# Altium schematic symbol library GPS_SchLib.SchLib: 9 symbols
Pins are listed as number, name and electrical type; pins without a type are passive.

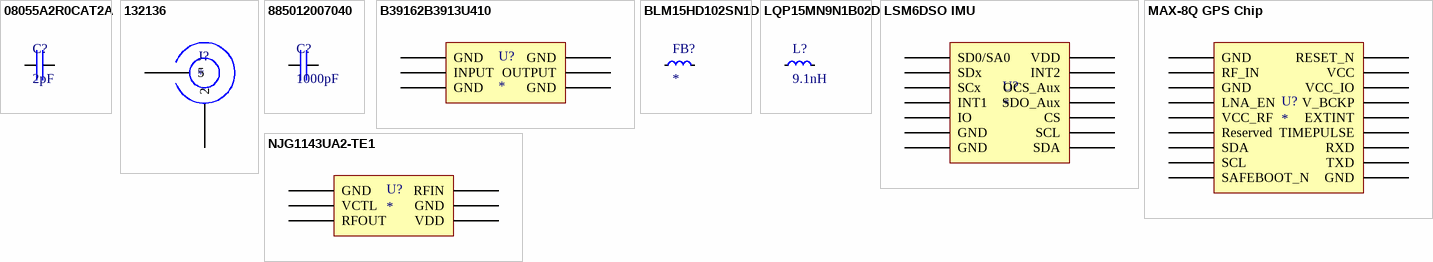
[diagram p0: symbols 08055A2R0CAT2A to NJG1143UA2-TE1]

## 08055A2R0CAT2A
designator C?, comment 2pF
2pF ±0.25pF 50V Ceramic Capacitor C0G, NP0 0805 (2012 Metric); ComponentLink1Description: Datasheet; ComponentLink1URL: http://datasheets.avx.com/C0GNP0-Dielectric.pdf
footprint 0805
pins: 1, 2

## 132136
designator J?
Connector, rf coaxial,SMA right angle jack for p.c. board, 4 legs, .050 cont, 50 ohm; ComponentLink1Description: Digikey; ComponentLink1URL: https://www.digikey.ca/product-detail/en/amphenol-rf-division/132136/ACX1232-ND/1011909; ComponentLink2Description: Drawing datasheet; ComponentLink2URL: https://www.amphenolrf.com/media/downloads/211/132136.PDF
footprint 132136
pins: 2, 5

## 885012007040
designator C?, comment 1000pF
1000pF ±5% 25V Ceramic Capacitor C0G, NP0 0805 (2012 Metric); ComponentLink1Description: Datasheet; ComponentLink1URL: https://katalog.we-online.de/pbs/datasheet/885012007040.pdf
footprint 0805
pins: 1, 2

## B39162B3913U410
designator U?
SAW Filter 1588MHzFrequency 50Ohm SMD 6Pin; ComponentLink1Description: datasheet; ComponentLink1URL: https://4donline.ihs.com/images/VipMasterIC/IC/TDKC/TDKC-S-A0001073526/TDKC-S-A0001072983-1.pdf?hkey=52A5661711E402568146F3353EA87419
footprint DCC6C (footprint for B39162B3913U410CT-ND)
pins: 1 GND, 2 INPUT, 3 GND, 4 GND, 5 OUTPUT, 6 GND

## BLM15HD102SN1D
designator FB?
Ferrite Beads 0402 1Kohms Tape GHz Hi Spd Sig Line; Manufacturer: Taiyo Yuden; Manufacturer Part Number: NR6028T330M; Inductance: 33uH; DC Resistance (DCR): 286mR; Test Frequency: 100kHz; Max DC Current: 1.1A; Tolerance: 20%; Shielding: Shielded; Self Resonant Frequency: 10MHz; Supplier 1: Digi-Key; Supplier Part Number 1: 587-2631-1-ND; RoHS: Yes; Category: Fixed Inductors; Stock 1: 53157; Mount: Surface Mount; Case/Package: Nonstandard; Number of Pins: 2; Core Material: Ferrite; Min Operating Temperature: -25°C; Max Operating Temperature: 120°C; Composition: Wirewound; Termination: SMD/SMT; RMS Current (Irms): 1.1A; Package Quantity: 2000; Current Rating: 1.1A; Saturation Current: 1.1A; Packaging: Tape and Reel; Inductance Tolerance: 20%; Length: 0.236inch; Height: 2.8mm; Height - Seated (Max): 0.11inch; Depth: 6.2mm; Width: 0.236inch; Radiation Hardening: No; Halogen Free: Halogen Free; REACH SVHC: Unknown; ComponentLink1Description: datasheet; ComponentLink1URL: https://www.mouser.ca/datasheet/2/281/c31e-794748.pdf; ComponentLink2Description: mouser; ComponentLink2URL: https://www.mouser.ca/ProductDetail/Murata-Electronics/BLM15HD102SN1D?qs=0VEDk56ETTrhGT2kRvuD7A%3D%3D
footprint L0402 (Chip Inductor, 2-Leads, Body 1.00x0.50mm, IPC Medium Density)
pins: 1, 2

## LQP15MN9N1B02D
designator L?, comment 9.1nH
Fixed Inductors 9.1nH 0402; ComponentLink1Description: datasheet; ComponentLink1URL: https://www.mouser.ca/datasheet/2/281/JELF243C-0015-1623907.pdf
footprint 0402
pins: 1, 2

## LSM6DSO IMU
designator U?
3D digital accelerometer and a 3D digital gyroscope; ComponentLink1Description: datasheet; ComponentLink1URL: https://www.st.com/resource/en/datasheet/lsm6dso.pdf
footprint LSM6DSO IMU
pins: 1 SD0/SA0, 2 SDx, 3 SCx, 4 INT1, 5 IO, 6 GND, 7 GND, 8 VDD, 9 INT2, 10 OCS_Aux, 11 SDO_Aux, 12 CS, 13 SCL, 14 SDA

## MAX-8Q GPS Chip
designator U?
High sensitivity of –166 dBm for single GNSS reception; ComponentLink1Description: datasheet; ComponentLink1URL: https://www.u-blox.com/en/product/max-8-series#tab-documentation-resources
footprint MAX-8Q GPS
pins: 1 GND, 2 TXD, 3 RXD, 4 TIMEPULSE, 5 EXTINT, 6 V_BCKP, 7 VCC_IO, 8 VCC, 9 RESET_N, 10 GND, 11 RF_IN, 12 GND, 13 LNA_EN, 14 VCC_RF, 15 Reserved, 16 SDA, 17 SCL, 18 SAFEBOOT_N

## NJG1143UA2-TE1
designator U?
RF Amplifier Low Noise Amp GaAs MMIC 1.5V to 3.6V; ComponentLink1Description: mouser; ComponentLink1URL: https://www.mouser.ca/datasheet/2/294/NJG1143UA2_E-1539345.pdf
footprint EPFFP6-A2 (Footprint for NJG1143UA2)
pins: 1 GND, 2 VCTL, 3 RFOUT, 4 VDD, 5 GND, 6 RFIN